# Altium schematic symbol library Passives.SchLib: 2 symbols
Pins are listed as number, name and electrical type; pins without a type are passive.

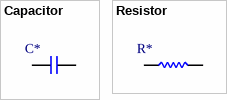
[diagram p0: symbols Capacitor to Resistor]

## Capacitor
designator C*  (value not drawn)
footprint 0402
pins: 0, 1

## Resistor
designator R*  (value not drawn)
footprint 0402
pins: 0, 1